# Altium footprint library XDCR_LA55-P.PcbLib: 1 footprints
Each footprint in its own frame and in the unit in brackets; x right, y up, seen from the top. Pads: shape width x height; smd on the part's side, far side on the other; paste and mask are expansions set on the pad; w line width, h text height; cw(c..) or ccw(c..) is an arc to the next point about the centre after c.
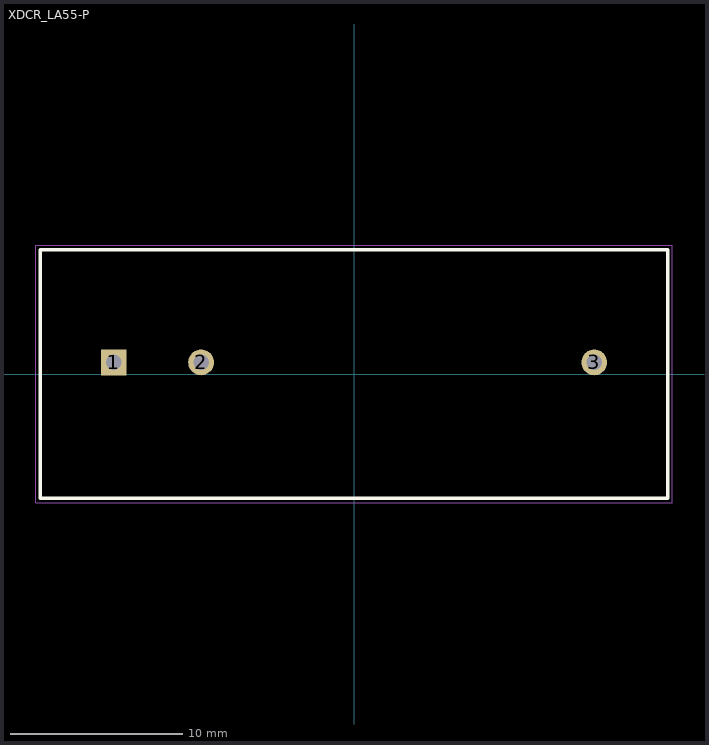
[diagram p0: the footprint, top view; thin cyan lines are the x and y axes]

## XDCR_LA55-P [mm]
pads (3):
  rect 1.5x1.5 / inner round 1.5 / far side rect 1.5x1.5 hole 0.9: 1(-13.97,0.675)
  round 1.5 hole 0.9: 2(-8.89,0.675) 3(13.97,0.675)
Top Overlay:
  lines w0.2: -18.25,-7.225 18.25,-7.225 18.25,7.225 -18.25,7.225 -18.25,-7.225
Mechanical 15:
  lines w0.05: -18.5,-7.5 18.5,-7.5 18.5,7.5 -18.5,7.5 -18.5,-7.5
3D body "step_temp.STEP": height 27.2, standoff -4.8, extent -18.3,-7.175 18.3,7.175